# Altium footprint library custom-case.PcbLib: 20 footprints (part 2 of 2)
Each footprint in its own frame and in the unit in brackets; x right, y up, seen from the top. Pads: shape width x height; smd on the part's side, far side on the other; paste and mask are expansions set on the pad; w line width, h text height; cw(c..) or ccw(c..) is an arc to the next point about the centre after c.
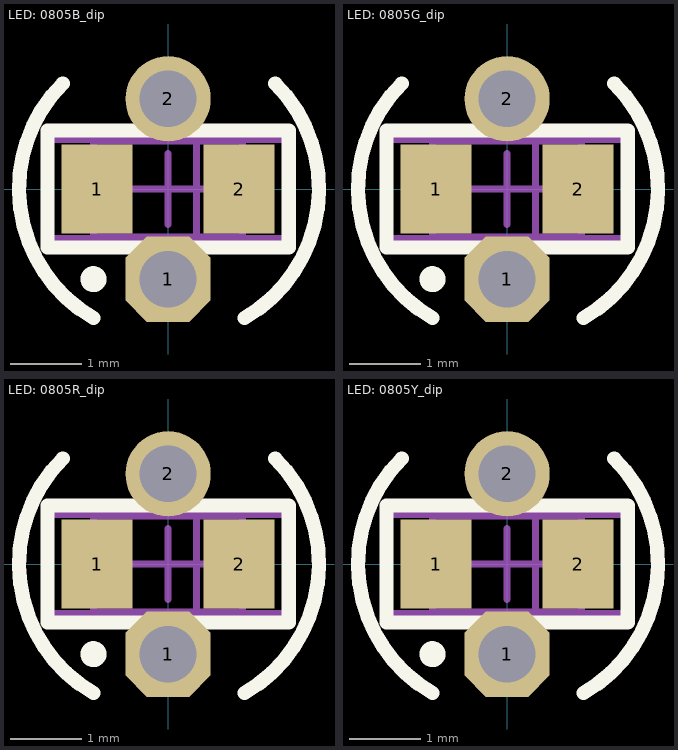
[diagram p1: the footprints below, top view; thin cyan lines are the x and y axes]

## LED: 0805B_dip [mm]
height 1
pads (4):
  rect 1x1.25 smd: 1(-1,0) 2(1,0)
  oct 1.2x1.2 hole 0.8: 1(0,-1.27)
  round 1.2 hole 0.8: 2(0,1.27)
Top Overlay:
  circle w0.254: c-1.05,-1.27 r0.056
  lines w0.2: -1.485,1.485 ccw(c0,0) -1.05,-1.819 ; 1.075,-1.819 ccw(c0.025,0) 1.51,1.485 ; -1.7,-0.825 -1.7,0.825 1.7,0.825 1.7,-0.825 -1.7,-0.825
Top Assy:
  lines w0.1: 0.4,-0.675 0.4,0.675 ; -1.05,-0.675 -1.05,0.675 1.05,0.675 1.05,-0.675 -1.05,-0.675
Size Area:
  lines w0.1: -0.5,0 0.5,0 ; 0,-0.5 0,0.5 ; -1.7,-0.7 1.7,-0.7 1.7,0.7 -1.7,0.7 -1.7,-0.7
3D body "LED 0805 - BLUE.STEP": height 0.9, standoff -0.01, extent -1.05,-0.675 1.05,0.675

## LED: 0805G_dip [mm]
height 1
pads (4):
  rect 1x1.25 smd: 1(-1,0) 2(1,0)
  oct 1.2x1.2 hole 0.8: 1(0,-1.27)
  round 1.2 hole 0.8: 2(0,1.27)
Top Overlay:
  circle w0.254: c-1.05,-1.27 r0.056
  lines w0.2: -1.485,1.485 ccw(c0,0) -1.05,-1.819 ; 1.075,-1.819 ccw(c0.025,0) 1.51,1.485 ; -1.7,-0.825 1.7,-0.825 1.7,0.825 -1.7,0.825 -1.7,-0.825
Top Assy:
  lines w0.1: 0.4,-0.675 0.4,0.675 ; -1.05,-0.675 1.05,-0.675 1.05,0.675 -1.05,0.675 -1.05,-0.675
Size Area:
  lines w0.1: -0.5,0 0.5,0 ; 0,-0.5 0,0.5 ; -1.7,-0.7 -1.7,0.7 1.7,0.7 1.7,-0.7 -1.7,-0.7
3D body "LED 0805 - GREEN.STEP": height 0.9, standoff -0.01, extent -1.05,-0.675 1.05,0.675

## LED: 0805R_dip [mm]
height 1
pads (4):
  rect 1x1.25 smd: 1(-1,0) 2(1,0)
  oct 1.2x1.2 hole 0.8: 1(0,-1.27)
  round 1.2 hole 0.8: 2(0,1.27)
Top Overlay:
  circle w0.254: c-1.05,-1.27 r0.056
  lines w0.2: -1.485,1.485 ccw(c0,0) -1.05,-1.819 ; 1.075,-1.819 ccw(c0.025,0) 1.51,1.485 ; -1.7,-0.825 -1.7,0.825 1.7,0.825 1.7,-0.825 -1.7,-0.825
Top Assy:
  lines w0.1: 0.4,-0.675 0.4,0.675 ; -1.05,-0.675 1.05,-0.675 1.05,0.675 -1.05,0.675 -1.05,-0.675
Size Area:
  lines w0.1: -0.5,0 0.5,0 ; 0,-0.5 0,0.5 ; -1.7,-0.7 1.7,-0.7 1.7,0.7 -1.7,0.7 -1.7,-0.7
3D body "User Library-CHIPLED-0805.STEP": height 0.9, standoff -0.01, extent -1.05,-0.675 1.05,0.675

## LED: 0805Y_dip [mm]
height 1
pads (4):
  rect 1x1.25 smd: 1(-1,0) 2(1,0)
  oct 1.2x1.2 hole 0.8: 1(0,-1.27)
  round 1.2 hole 0.8: 2(0,1.27)
Top Overlay:
  circle w0.254: c-1.05,-1.27 r0.056
  lines w0.2: -1.485,1.485 ccw(c0,0) -1.05,-1.819 ; 1.075,-1.819 ccw(c0.025,0) 1.51,1.485 ; -1.7,-0.825 -1.7,0.825 1.7,0.825 1.7,-0.825 -1.7,-0.825
Top Assy:
  lines w0.1: 0.4,-0.675 0.4,0.675 ; -1.05,-0.675 1.05,-0.675 1.05,0.675 -1.05,0.675 -1.05,-0.675
Size Area:
  lines w0.1: -0.5,0 0.5,0 ; 0,-0.5 0,0.5 ; -1.7,-0.7 1.7,-0.7 1.7,0.7 -1.7,0.7 -1.7,-0.7
3D body "orange.STEP": height 0.9, standoff -0.01, extent -1.05,-0.675 1.05,0.675